# Altium footprint library LCD1602.PcbLib: 1 footprints
Each footprint in its own frame and in the unit in brackets; x right, y up, seen from the top. Pads: shape width x height; smd on the part's side, far side on the other; paste and mask are expansions set on the pad; w line width, h text height; cw(c..) or ccw(c..) is an arc to the next point about the centre after c.
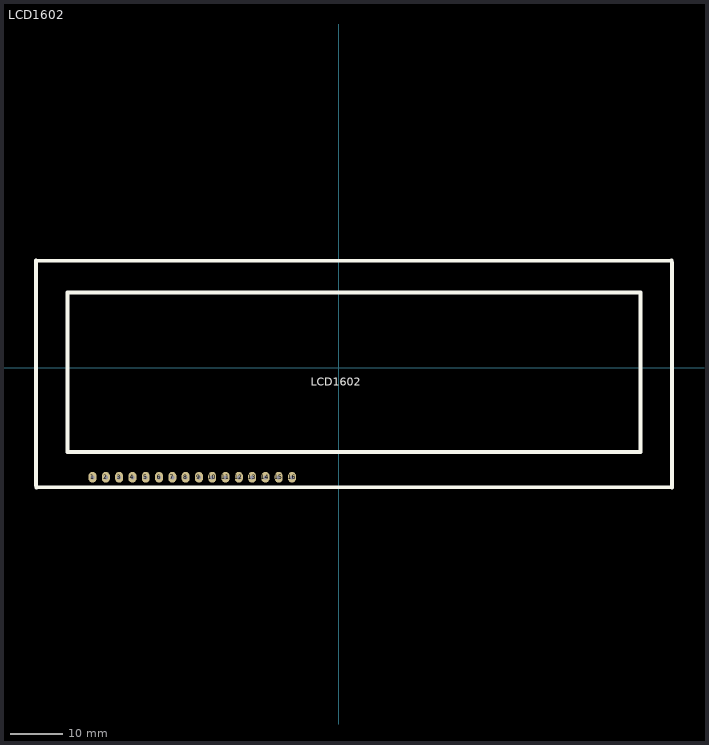
[diagram p0: the footprint, top view; thin cyan lines are the x and y axes]

## LCD1602 [mil]
height 300
pads (16):
  oval 60x80 hole 30: 1(-1850,-825) 2(-1750,-825) 3(-1650,-825) 4(-1550,-825) 5(-1450,-825) 6(-1350,-825) 7(-1250,-825) 8(-1150,-825) 9(-1050,-825) 10(-950,-825) 11(-850,-825) 12(-750,-825) 13(-650,-825) 14(-550,-825) 15(-450,-825) 16(-350,-825)
Top Overlay:
  lines w30: -2276.54,-888.44 -2276.54,804.24 ; -2276.54,801.56 2503.46,806.56 ; -2271.54,-903.44 2508.46,-898.44 ; 2508.46,-901.11 2508.46,791.56 ; -2039.96,-636.57 2270.04,-636.57 2270.04,563.43 -2039.96,563.43 -2039.96,-636.57
  text "LCD1602" at -209.96,-136.57 h60
3D body: height 630.71, standoff -87.8, extent -2279.96,-924.69 2523.19,811.53